# EAGLE library part IF_SW_MUX_TMUX1208 (library !GPLIB_ACTIVE)
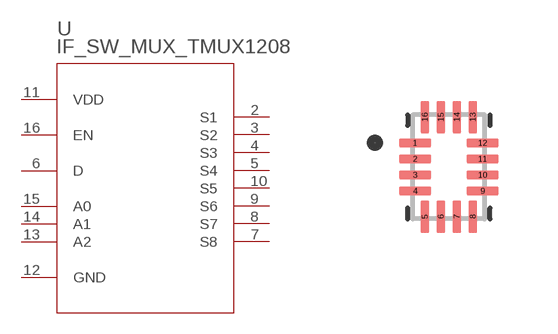
[diagram p62: symbol with the pads of QFN40P260X180X55-16N; footprint QFN40P260X180X55-16N]

Designator prefix U

## IF_SW_MUX_TMUX1208_TMUX1208QRSVRQ1  [QFN40P260X180X55-16N]
2  S1
3  S2
4  S3
5  S4
6  D
7  S8
8  S7
9  S6
10  S5
11  VDD  pwr
12  GND  pas
13  A2  in
14  A1  in
15  A0  in
16  EN  in

## Footprint QFN40P260X180X55-16N (pad centres in mm)
smd 0.81 x 0.22: 1 -0.845,0.6; 2 -0.845,0.2; 3 -0.845,-0.2; 4 -0.845,-0.6; 9 0.845,-0.6; 10 0.845,-0.2; 11 0.845,0.2; 12 0.845,0.6
smd 0.22 x 0.81: 5 -0.6,-1.245; 6 -0.2,-1.245; 7 0.2,-1.245; 8 0.6,-1.245; 13 0.6,1.245; 14 0.2,1.245; 15 -0.2,1.245; 16 -0.6,1.245